# Altium footprint library AVAG-HLMP-3301-2.PcbLib: 1 footprints
Each footprint in its own frame and in the unit in brackets; x right, y up, seen from the top. Pads: shape width x height; smd on the part's side, far side on the other; paste and mask are expansions set on the pad; w line width, h text height; cw(c..) or ccw(c..) is an arc to the next point about the centre after c.
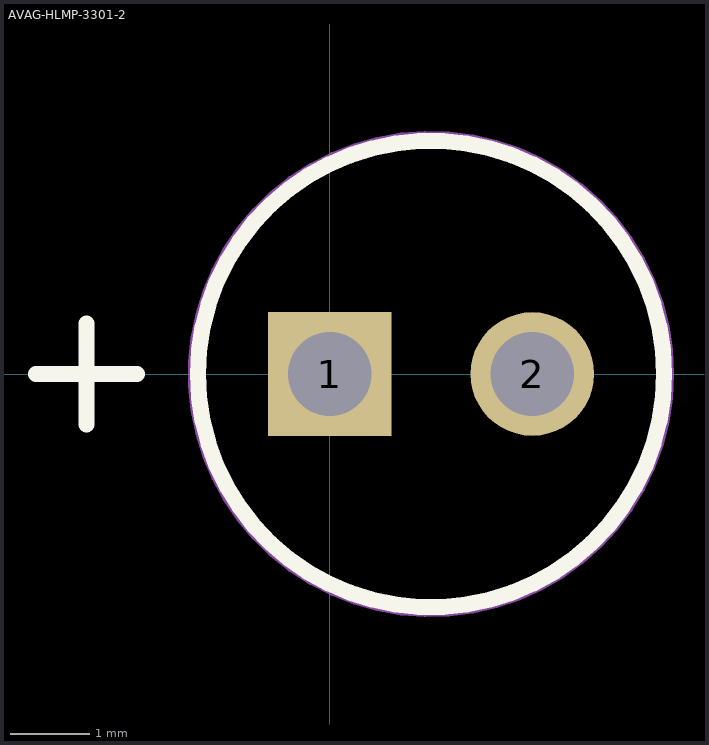
[diagram p0: the footprint, top view; thin cyan lines are the x and y axes]

## AVAG-HLMP-3301-2 [mm] "THD, 2-Leads, Body Dia 5.85mm"
pads (2):
  rect 1.55x1.55 hole 1.05: 1(0,0)
  round 1.55 hole 1.05: 2(2.54,0)
Top Overlay:
  circle w0.2: c1.27,0 r2.923
  lines w0.2: -3.683,0 -2.413,0 ; -3.048,-0.635 -3.048,0.635
Mechanical 13:
  circle w0.1: c1.27,0 r2.923
Mechanical 15:
  circle w0.05: c1.27,0 r3.023